# EAGLE library part AVR_ICSP_6P (library PogoFootPrints-Eagle)
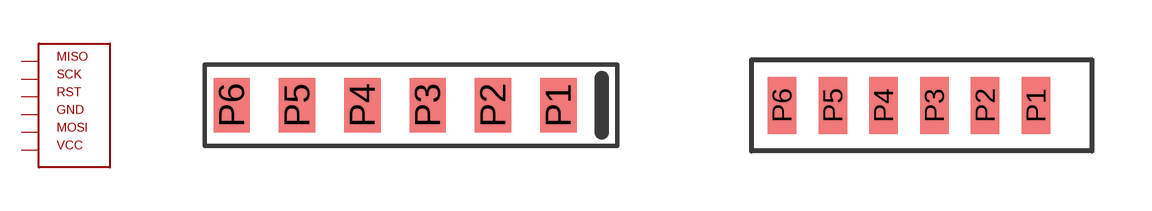
[diagram p0: symbol with the pads of AVR_ICSP_1X6_SMD; footprints AVR_ICSP_1X6_SMD, AVR_ICSP_1X6_SMD_127]

Designator prefix -

## AVR_ICSP_6P1X6  [AVR_ICSP_1X6_SMD]
P1  VCC
P2  SCK
P3  RST
P4  MOSI
P5  MISO
P6  GND

## AVR_ICSP_6P1X6_1.27MM  [AVR_ICSP_1X6_SMD_127]
Pads as for AVR_ICSP_1X6_SMD

## Footprint AVR_ICSP_1X6_SMD (pad centres in mm)
smd 1.016 x 1.524: P1 9.144,0; P2 7.315,0; P3 5.486,0; P4 3.658,0; P5 1.829,0; P6 0,0

## Footprint AVR_ICSP_1X6_SMD_127 (pad centres in mm)
smd 0.711 x 1.422: P1 6.35,0; P2 5.08,0; P3 3.81,0; P4 2.54,0; P5 1.27,0; P6 0,0